# Altium schematic symbol library SCH - POWER - MODULE - B82464G4154M.SCHLIB: 1 symbol
Pins are listed as number, name and electrical type; pins without a type are passive.

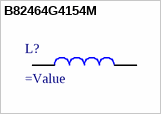
[diagram p0: symbol B82464G4154M]

## B82464G4154M
designator L?
SMT power Inductor, 150uH, 320m DRC
pins: 1, 2